# Altium integrated library Linear Technology Power Management Power Control.IntLib: 661 symbols (part 11 of 43)
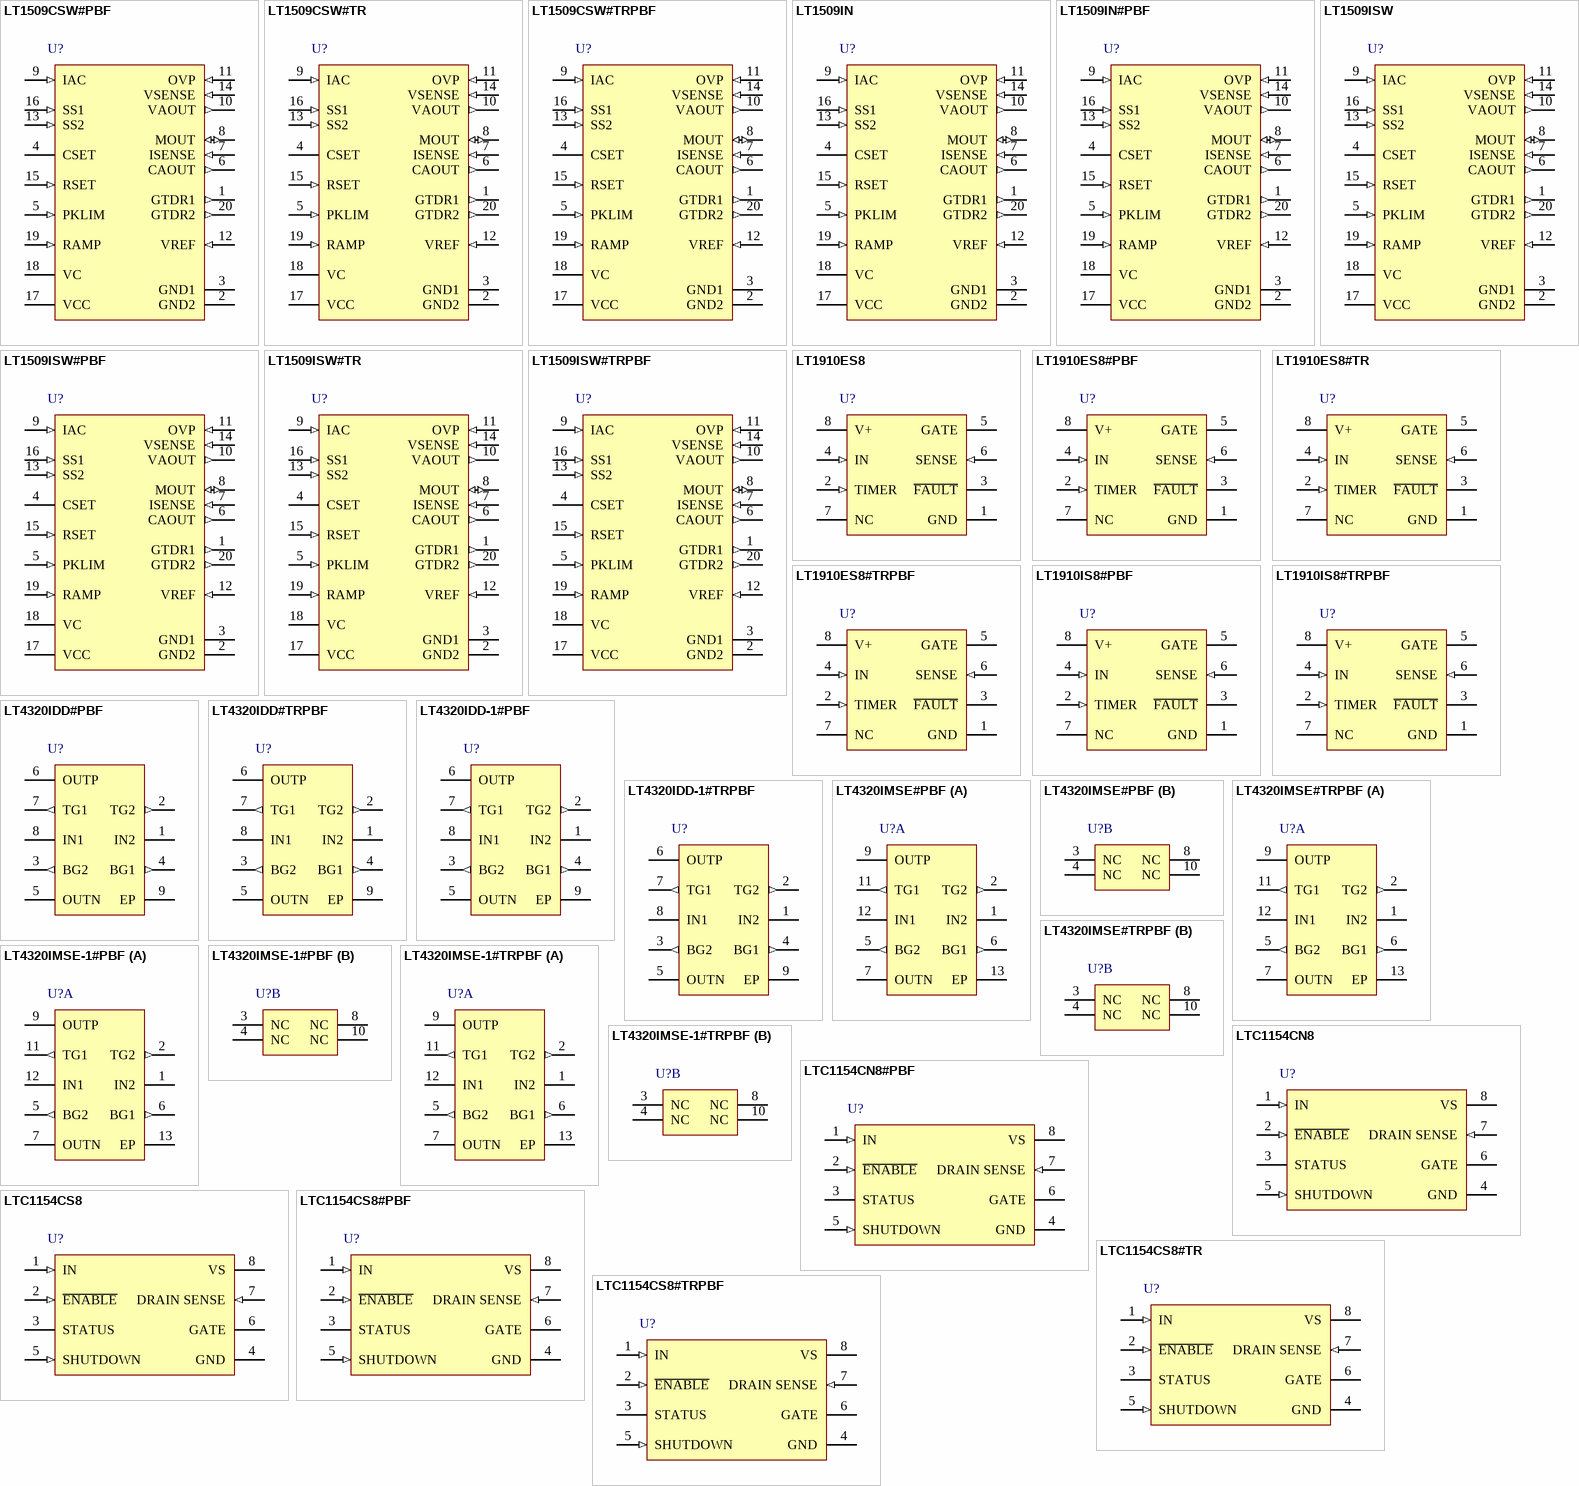
[diagram p29: symbols LT1509CSW#PBF to LTC1154CS8#TRPBF]

## LT1509CSW#TR
designator U?
Power Factor and PWM Controller, 20-pin SOIC (SW-20), 0 to 100 degC, Tape and Reel; Manufacturer: Linear Technology; PartNumber: LT1509CSW#TR; PackageVersion: Jun-10; PackageReference: SW-20; PackageDescription: 20-Pin Plastic Small Outline, Body 12.80 x 7.49 mm, Pitch 1.27 mm; Supplier 1: Digi-Key; Supplier Part Number 1: LT1509CSW#TR-ND; Packing: Tape and Reel; RoHS: FALSE; Mounting Technology: Surface Mount; ComponentLink1Description: Manufacturer URL; ComponentLink1URL: http://www.linear.com/; ComponentLink2Description: Datasheet; ComponentLink2URL: http://cds.linear.com/docs/en/datasheet/lt1509.pdf; ComponentLink3Description: Package Specification; ComponentLink3URL: http://cds.linear.com/docs/en/packaging/SO_20_05-08-1620.pdf
footprint LT-SW-20_N (SOIC, 20-Leads, Body 12.8x7.49mm, Pitch 1.27mm, IPC Medium Density)
footprint LT-SW-20_L (SOIC, 20-Leads, Body 12.8x7.49mm, Pitch 1.27mm, IPC High Density)
footprint LT-SW-20_M (SOIC, 20-Leads, Body 12.8x7.49mm, Pitch 1.27mm, IPC Low Density)
pins: 1 GTDR1 (out) "The PFC MOSFET gate driver is a fast totem pole output which is clamped at 15 V. Capacitive loads like the MOSFET gates may cause overshoot. A gate series resistor of at least 5 ohm will prevent the overshoot.", 2 GND2 (power) "Power Ground. High current spikes occur in this line when either GTDR1 or GTDR2 switches low.", 3 GND1 (power) "Analog Ground.", 4 CSET "The capacitor from this pin to GND and RSET determines oscillator frequency. The oscillator ramp is 5V and the frequency = 1.5/(RSET CSET ).", 5 PKLIM (in) "The threshold of the peak current limit comparator is GND. To set current limit, a resistor divider can be connected from VREF to current sense resistor.", 6 CAOUT (out) "This is the output of the current amplifier that senses and forces the line current to follow the reference signal that comes from the multiplier by commanding the pulse width modulator. When CAOUT is low, the modulator has (See Datasheet)", 7 ISENSE (in) "This is the inverting input of the current amplifier. This pin is clamped at -0.6 V by an ESD protec tion diode.", 8 MOUT (io) "This is the multiplier high impedance current output and the noninverting input of the current amplifier. This pin is clamped at -0.6 V and 3 V.", 9 IAC (in) "This is the AC line voltage sensing input to the multiplier. It is a current input that is biased at 2 V to minimize the crossover dead zone caused by low line voltage. At the pin, a 25 k resistor is in series with the (See Datasheet)", 10 VAOUT (out) "This is the output of the voltage error amplifier. The output is clamped at 13.5 V. When the output goes below 2.5 V, the multiplier output current is zero.", 11 OVP (in) "This is the input to the overvoltage comparator. The threshold is 1.05 times the reference voltage. When the comparator trips, the multiplier, which is quickly inhibited, blanks PFC switching to prevent further overshoot. (See Datasheet)", 12 VREF (in) "This is the 7.5 V reference. When VCC goes low, VREF will stay at 0 V. VREF biases most of the internal circuitry and can source up to 5 mA externally.", 13 SS2 (in) "PWM Soft Start. The comparator PWMOK monitors the OVP pin and releases the SS2 after the PFC output gets close to the final voltage.", 14 VSENSE (in) "This is the inverting input to the voltage amplifier.", 15 RSET (in) "A resistor from RSET to GND sets the oscillator charging current and the maximum multiplier output current which is used to limit the maximum line current.", 16 SS1 (in) "Soft Start. SS1 is reset to zero for low VCC . When VCC rises above lockout threshold, SS1 is released to ramp up at a rate set by the internal 12 uA current source and an external capacitor. During this ramp up, PFC (See Datasheet)", 17 VCC (power) "This is the supply for the chip.", 18 VC "PWM current mode control voltage. Normally connects to the optocoupler amplifier output. A pull-up current of 50 uA flows out of the pin.", 19 RAMP (in) "PWM current mode current sense input with current limit set to 1 V.", 20 GTDR2 (out) "The PWM MOSFET gate driver is a 1.5 A fast totem pole output. It is clamped at 15 V. Capacitive loads like the MOSFET gates may cause overshoot. A gate series resistor of at least 5 ohm will prevent the overshoot."

## LT1509CSW#TRPBF
designator U?
Power Factor and PWM Controller, 20-pin SOIC (SW-20), 0 to 100 degC, Pb-Free, Tape and Reel; Manufacturer: Linear Technology; PartNumber: LT1509CSW#TRPBF; PackageVersion: Jun-10; PackageReference: SW-20; PackageDescription: 20-Pin Plastic Small Outline, Body 12.80 x 7.49 mm, Pitch 1.27 mm; Supplier 1: Digi-Key; Supplier Part Number 1: LT1509CSW#TRPBF-ND; Packing: Tape and Reel; RoHS: TRUE; Mounting Technology: Surface Mount; ComponentLink1Description: Manufacturer URL; ComponentLink1URL: http://www.linear.com/; ComponentLink2Description: Datasheet; ComponentLink2URL: http://cds.linear.com/docs/en/datasheet/lt1509.pdf; ComponentLink3Description: Package Specification; ComponentLink3URL: http://cds.linear.com/docs/en/packaging/SO_20_05-08-1620.pdf
footprint LT-SW-20_N (SOIC, 20-Leads, Body 12.8x7.49mm, Pitch 1.27mm, IPC Medium Density)
footprint LT-SW-20_L (SOIC, 20-Leads, Body 12.8x7.49mm, Pitch 1.27mm, IPC High Density)
footprint LT-SW-20_M (SOIC, 20-Leads, Body 12.8x7.49mm, Pitch 1.27mm, IPC Low Density)
pins: 1 GTDR1 (out) "The PFC MOSFET gate driver is a fast totem pole output which is clamped at 15 V. Capacitive loads like the MOSFET gates may cause overshoot. A gate series resistor of at least 5 ohm will prevent the overshoot.", 2 GND2 (power) "Power Ground. High current spikes occur in this line when either GTDR1 or GTDR2 switches low.", 3 GND1 (power) "Analog Ground.", 4 CSET "The capacitor from this pin to GND and RSET determines oscillator frequency. The oscillator ramp is 5V and the frequency = 1.5/(RSET CSET ).", 5 PKLIM (in) "The threshold of the peak current limit comparator is GND. To set current limit, a resistor divider can be connected from VREF to current sense resistor.", 6 CAOUT (out) "This is the output of the current amplifier that senses and forces the line current to follow the reference signal that comes from the multiplier by commanding the pulse width modulator. When CAOUT is low, the modulator has (See Datasheet)", 7 ISENSE (in) "This is the inverting input of the current amplifier. This pin is clamped at -0.6 V by an ESD protec tion diode.", 8 MOUT (io) "This is the multiplier high impedance current output and the noninverting input of the current amplifier. This pin is clamped at -0.6 V and 3 V.", 9 IAC (in) "This is the AC line voltage sensing input to the multiplier. It is a current input that is biased at 2 V to minimize the crossover dead zone caused by low line voltage. At the pin, a 25 k resistor is in series with the (See Datasheet)", 10 VAOUT (out) "This is the output of the voltage error amplifier. The output is clamped at 13.5 V. When the output goes below 2.5 V, the multiplier output current is zero.", 11 OVP (in) "This is the input to the overvoltage comparator. The threshold is 1.05 times the reference voltage. When the comparator trips, the multiplier, which is quickly inhibited, blanks PFC switching to prevent further overshoot. (See Datasheet)", 12 VREF (in) "This is the 7.5 V reference. When VCC goes low, VREF will stay at 0 V. VREF biases most of the internal circuitry and can source up to 5 mA externally.", 13 SS2 (in) "PWM Soft Start. The comparator PWMOK monitors the OVP pin and releases the SS2 after the PFC output gets close to the final voltage.", 14 VSENSE (in) "This is the inverting input to the voltage amplifier.", 15 RSET (in) "A resistor from RSET to GND sets the oscillator charging current and the maximum multiplier output current which is used to limit the maximum line current.", 16 SS1 (in) "Soft Start. SS1 is reset to zero for low VCC . When VCC rises above lockout threshold, SS1 is released to ramp up at a rate set by the internal 12 uA current source and an external capacitor. During this ramp up, PFC (See Datasheet)", 17 VCC (power) "This is the supply for the chip.", 18 VC "PWM current mode control voltage. Normally connects to the optocoupler amplifier output. A pull-up current of 50 uA flows out of the pin.", 19 RAMP (in) "PWM current mode current sense input with current limit set to 1 V.", 20 GTDR2 (out) "The PWM MOSFET gate driver is a 1.5 A fast totem pole output. It is clamped at 15 V. Capacitive loads like the MOSFET gates may cause overshoot. A gate series resistor of at least 5 ohm will prevent the overshoot."

## LT1509IN
designator U?
Power Factor and PWM Controller, 20-pin DIP (N-20), -40 to 125 degC; Manufacturer: Linear Technology; PartNumber: LT1509IN; PackageVersion: Rev. I, 07/2011; PackageReference: N-20; PackageDescription: 20-Pin PDIP, Body 26.924 x 6.477 mm, Pitch 2.54 mm; Supplier 1: Digi-Key; Supplier Part Number 1: LT1509IN-ND; Supplier 2: Newark; Supplier Part Number 2: 57M4657; RoHS: FALSE; Mounting Technology: Through Hole; ComponentLink1Description: Manufacturer URL; ComponentLink1URL: http://www.linear.com/; ComponentLink2Description: Datasheet; ComponentLink2URL: http://cds.linear.com/docs/en/datasheet/lt1509.pdf; ComponentLink3Description: Package Specification; ComponentLink3URL: http://cds.linear.com/docs/en/packaging/05081510_I_N20.pdf
footprint LT-N-20 (DIP, 20-Leads, Body 26.924x6.477mm, Pitch 2.54mm)
pins: 1 GTDR1 (out) "The PFC MOSFET gate driver is a fast totem pole output which is clamped at 15 V. Capacitive loads like the MOSFET gates may cause overshoot. A gate series resistor of at least 5 ohm will prevent the overshoot.", 2 GND2 (power) "Power Ground. High current spikes occur in this line when either GTDR1 or GTDR2 switches low.", 3 GND1 (power) "Analog Ground.", 4 CSET "The capacitor from this pin to GND and RSET determines oscillator frequency. The oscillator ramp is 5V and the frequency = 1.5/(RSET CSET ).", 5 PKLIM (in) "The threshold of the peak current limit comparator is GND. To set current limit, a resistor divider can be connected from VREF to current sense resistor.", 6 CAOUT (out) "This is the output of the current amplifier that senses and forces the line current to follow the reference signal that comes from the multiplier by commanding the pulse width modulator. When CAOUT is low, the modulator has (See Datasheet)", 7 ISENSE (in) "This is the inverting input of the current amplifier. This pin is clamped at -0.6 V by an ESD protec tion diode.", 8 MOUT (io) "This is the multiplier high impedance current output and the noninverting input of the current amplifier. This pin is clamped at -0.6 V and 3 V.", 9 IAC (in) "This is the AC line voltage sensing input to the multiplier. It is a current input that is biased at 2 V to minimize the crossover dead zone caused by low line voltage. At the pin, a 25 k resistor is in series with the (See Datasheet)", 10 VAOUT (out) "This is the output of the voltage error amplifier. The output is clamped at 13.5 V. When the output goes below 2.5 V, the multiplier output current is zero.", 11 OVP (in) "This is the input to the overvoltage comparator. The threshold is 1.05 times the reference voltage. When the comparator trips, the multiplier, which is quickly inhibited, blanks PFC switching to prevent further overshoot. (See Datasheet)", 12 VREF (in) "This is the 7.5 V reference. When VCC goes low, VREF will stay at 0 V. VREF biases most of the internal circuitry and can source up to 5 mA externally.", 13 SS2 (in) "PWM Soft Start. The comparator PWMOK monitors the OVP pin and releases the SS2 after the PFC output gets close to the final voltage.", 14 VSENSE (in) "This is the inverting input to the voltage amplifier.", 15 RSET (in) "A resistor from RSET to GND sets the oscillator charging current and the maximum multiplier output current which is used to limit the maximum line current.", 16 SS1 (in) "Soft Start. SS1 is reset to zero for low VCC . When VCC rises above lockout threshold, SS1 is released to ramp up at a rate set by the internal 12 uA current source and an external capacitor. During this ramp up, PFC (See Datasheet)", 17 VCC (power) "This is the supply for the chip.", 18 VC "PWM current mode control voltage. Normally connects to the optocoupler amplifier output. A pull-up current of 50 uA flows out of the pin.", 19 RAMP (in) "PWM current mode current sense input with current limit set to 1 V.", 20 GTDR2 (out) "The PWM MOSFET gate driver is a 1.5 A fast totem pole output. It is clamped at 15 V. Capacitive loads like the MOSFET gates may cause overshoot. A gate series resistor of at least 5 ohm will prevent the overshoot."

## LT1509IN#PBF
designator U?
Power Factor and PWM Controller, 20-pin DIP (N-20), -40 to 125 degC, Pb-Free; Manufacturer: Linear Technology; PartNumber: LT1509IN#PBF; PackageVersion: Rev. I, 07/2011; PackageReference: N-20; PackageDescription: 20-Pin PDIP, Body 26.924 x 6.477 mm, Pitch 2.54 mm; Supplier 1: Digi-Key; Supplier Part Number 1: LT1509IN#PBF-ND; Supplier 2: Newark; Supplier Part Number 2: 57M4658; RoHS: TRUE; Mounting Technology: Through Hole; ComponentLink1Description: Manufacturer URL; ComponentLink1URL: http://www.linear.com/; ComponentLink2Description: Datasheet; ComponentLink2URL: http://cds.linear.com/docs/en/datasheet/lt1509.pdf; ComponentLink3Description: Package Specification; ComponentLink3URL: http://cds.linear.com/docs/en/packaging/05081510_I_N20.pdf
footprint LT-N-20 (DIP, 20-Leads, Body 26.924x6.477mm, Pitch 2.54mm)
pins: 1 GTDR1 (out) "The PFC MOSFET gate driver is a fast totem pole output which is clamped at 15 V. Capacitive loads like the MOSFET gates may cause overshoot. A gate series resistor of at least 5 ohm will prevent the overshoot.", 2 GND2 (power) "Power Ground. High current spikes occur in this line when either GTDR1 or GTDR2 switches low.", 3 GND1 (power) "Analog Ground.", 4 CSET "The capacitor from this pin to GND and RSET determines oscillator frequency. The oscillator ramp is 5V and the frequency = 1.5/(RSET CSET ).", 5 PKLIM (in) "The threshold of the peak current limit comparator is GND. To set current limit, a resistor divider can be connected from VREF to current sense resistor.", 6 CAOUT (out) "This is the output of the current amplifier that senses and forces the line current to follow the reference signal that comes from the multiplier by commanding the pulse width modulator. When CAOUT is low, the modulator has (See Datasheet)", 7 ISENSE (in) "This is the inverting input of the current amplifier. This pin is clamped at -0.6 V by an ESD protec tion diode.", 8 MOUT (io) "This is the multiplier high impedance current output and the noninverting input of the current amplifier. This pin is clamped at -0.6 V and 3 V.", 9 IAC (in) "This is the AC line voltage sensing input to the multiplier. It is a current input that is biased at 2 V to minimize the crossover dead zone caused by low line voltage. At the pin, a 25 k resistor is in series with the (See Datasheet)", 10 VAOUT (out) "This is the output of the voltage error amplifier. The output is clamped at 13.5 V. When the output goes below 2.5 V, the multiplier output current is zero.", 11 OVP (in) "This is the input to the overvoltage comparator. The threshold is 1.05 times the reference voltage. When the comparator trips, the multiplier, which is quickly inhibited, blanks PFC switching to prevent further overshoot. (See Datasheet)", 12 VREF (in) "This is the 7.5 V reference. When VCC goes low, VREF will stay at 0 V. VREF biases most of the internal circuitry and can source up to 5 mA externally.", 13 SS2 (in) "PWM Soft Start. The comparator PWMOK monitors the OVP pin and releases the SS2 after the PFC output gets close to the final voltage.", 14 VSENSE (in) "This is the inverting input to the voltage amplifier.", 15 RSET (in) "A resistor from RSET to GND sets the oscillator charging current and the maximum multiplier output current which is used to limit the maximum line current.", 16 SS1 (in) "Soft Start. SS1 is reset to zero for low VCC . When VCC rises above lockout threshold, SS1 is released to ramp up at a rate set by the internal 12 uA current source and an external capacitor. During this ramp up, PFC (See Datasheet)", 17 VCC (power) "This is the supply for the chip.", 18 VC "PWM current mode control voltage. Normally connects to the optocoupler amplifier output. A pull-up current of 50 uA flows out of the pin.", 19 RAMP (in) "PWM current mode current sense input with current limit set to 1 V.", 20 GTDR2 (out) "The PWM MOSFET gate driver is a 1.5 A fast totem pole output. It is clamped at 15 V. Capacitive loads like the MOSFET gates may cause overshoot. A gate series resistor of at least 5 ohm will prevent the overshoot."

## LT1509ISW
designator U?
Power Factor and PWM Controller, 20-pin SOIC (SW-20), -40 to 125 degC; Manufacturer: Linear Technology; PartNumber: LT1509ISW; PackageVersion: Jun-10; PackageReference: SW-20; PackageDescription: 20-Pin Plastic Small Outline, Body 12.80 x 7.49 mm, Pitch 1.27 mm; Supplier 1: Digi-Key; Supplier Part Number 1: LT1509ISW-ND; RoHS: FALSE; Mounting Technology: Surface Mount; ComponentLink1Description: Manufacturer URL; ComponentLink1URL: http://www.linear.com/; ComponentLink2Description: Datasheet; ComponentLink2URL: http://cds.linear.com/docs/en/datasheet/lt1509.pdf; ComponentLink3Description: Package Specification; ComponentLink3URL: http://cds.linear.com/docs/en/packaging/SO_20_05-08-1620.pdf
footprint LT-SW-20_N (SOIC, 20-Leads, Body 12.8x7.49mm, Pitch 1.27mm, IPC Medium Density)
footprint LT-SW-20_L (SOIC, 20-Leads, Body 12.8x7.49mm, Pitch 1.27mm, IPC High Density)
footprint LT-SW-20_M (SOIC, 20-Leads, Body 12.8x7.49mm, Pitch 1.27mm, IPC Low Density)
pins: 1 GTDR1 (out) "The PFC MOSFET gate driver is a fast totem pole output which is clamped at 15 V. Capacitive loads like the MOSFET gates may cause overshoot. A gate series resistor of at least 5 ohm will prevent the overshoot.", 2 GND2 (power) "Power Ground. High current spikes occur in this line when either GTDR1 or GTDR2 switches low.", 3 GND1 (power) "Analog Ground.", 4 CSET "The capacitor from this pin to GND and RSET determines oscillator frequency. The oscillator ramp is 5V and the frequency = 1.5/(RSET CSET ).", 5 PKLIM (in) "The threshold of the peak current limit comparator is GND. To set current limit, a resistor divider can be connected from VREF to current sense resistor.", 6 CAOUT (out) "This is the output of the current amplifier that senses and forces the line current to follow the reference signal that comes from the multiplier by commanding the pulse width modulator. When CAOUT is low, the modulator has (See Datasheet)", 7 ISENSE (in) "This is the inverting input of the current amplifier. This pin is clamped at -0.6 V by an ESD protec tion diode.", 8 MOUT (io) "This is the multiplier high impedance current output and the noninverting input of the current amplifier. This pin is clamped at -0.6 V and 3 V.", 9 IAC (in) "This is the AC line voltage sensing input to the multiplier. It is a current input that is biased at 2 V to minimize the crossover dead zone caused by low line voltage. At the pin, a 25 k resistor is in series with the (See Datasheet)", 10 VAOUT (out) "This is the output of the voltage error amplifier. The output is clamped at 13.5 V. When the output goes below 2.5 V, the multiplier output current is zero.", 11 OVP (in) "This is the input to the overvoltage comparator. The threshold is 1.05 times the reference voltage. When the comparator trips, the multiplier, which is quickly inhibited, blanks PFC switching to prevent further overshoot. (See Datasheet)", 12 VREF (in) "This is the 7.5 V reference. When VCC goes low, VREF will stay at 0 V. VREF biases most of the internal circuitry and can source up to 5 mA externally.", 13 SS2 (in) "PWM Soft Start. The comparator PWMOK monitors the OVP pin and releases the SS2 after the PFC output gets close to the final voltage.", 14 VSENSE (in) "This is the inverting input to the voltage amplifier.", 15 RSET (in) "A resistor from RSET to GND sets the oscillator charging current and the maximum multiplier output current which is used to limit the maximum line current.", 16 SS1 (in) "Soft Start. SS1 is reset to zero for low VCC . When VCC rises above lockout threshold, SS1 is released to ramp up at a rate set by the internal 12 uA current source and an external capacitor. During this ramp up, PFC (See Datasheet)", 17 VCC (power) "This is the supply for the chip.", 18 VC "PWM current mode control voltage. Normally connects to the optocoupler amplifier output. A pull-up current of 50 uA flows out of the pin.", 19 RAMP (in) "PWM current mode current sense input with current limit set to 1 V.", 20 GTDR2 (out) "The PWM MOSFET gate driver is a 1.5 A fast totem pole output. It is clamped at 15 V. Capacitive loads like the MOSFET gates may cause overshoot. A gate series resistor of at least 5 ohm will prevent the overshoot."

## LT1509ISW#PBF
designator U?
Power Factor and PWM Controller, 20-pin SOIC (SW-20), -40 to 125 degC, Pb-Free; Manufacturer: Linear Technology; PartNumber: LT1509ISW#PBF; PackageVersion: Jun-10; PackageReference: SW-20; PackageDescription: 20-Pin Plastic Small Outline, Body 12.80 x 7.49 mm, Pitch 1.27 mm; Supplier 1: Digi-Key; Supplier Part Number 1: LT1509ISW#PBF-ND; Supplier 2: Newark; Supplier Part Number 2: 57M4660; RoHS: TRUE; Mounting Technology: Surface Mount; ComponentLink1Description: Manufacturer URL; ComponentLink1URL: http://www.linear.com/; ComponentLink2Description: Datasheet; ComponentLink2URL: http://cds.linear.com/docs/en/datasheet/lt1509.pdf; ComponentLink3Description: Package Specification; ComponentLink3URL: http://cds.linear.com/docs/en/packaging/SO_20_05-08-1620.pdf
footprint LT-SW-20_N (SOIC, 20-Leads, Body 12.8x7.49mm, Pitch 1.27mm, IPC Medium Density)
footprint LT-SW-20_L (SOIC, 20-Leads, Body 12.8x7.49mm, Pitch 1.27mm, IPC High Density)
footprint LT-SW-20_M (SOIC, 20-Leads, Body 12.8x7.49mm, Pitch 1.27mm, IPC Low Density)
pins: 1 GTDR1 (out) "The PFC MOSFET gate driver is a fast totem pole output which is clamped at 15 V. Capacitive loads like the MOSFET gates may cause overshoot. A gate series resistor of at least 5 ohm will prevent the overshoot.", 2 GND2 (power) "Power Ground. High current spikes occur in this line when either GTDR1 or GTDR2 switches low.", 3 GND1 (power) "Analog Ground.", 4 CSET "The capacitor from this pin to GND and RSET determines oscillator frequency. The oscillator ramp is 5V and the frequency = 1.5/(RSET CSET ).", 5 PKLIM (in) "The threshold of the peak current limit comparator is GND. To set current limit, a resistor divider can be connected from VREF to current sense resistor.", 6 CAOUT (out) "This is the output of the current amplifier that senses and forces the line current to follow the reference signal that comes from the multiplier by commanding the pulse width modulator. When CAOUT is low, the modulator has (See Datasheet)", 7 ISENSE (in) "This is the inverting input of the current amplifier. This pin is clamped at -0.6 V by an ESD protec tion diode.", 8 MOUT (io) "This is the multiplier high impedance current output and the noninverting input of the current amplifier. This pin is clamped at -0.6 V and 3 V.", 9 IAC (in) "This is the AC line voltage sensing input to the multiplier. It is a current input that is biased at 2 V to minimize the crossover dead zone caused by low line voltage. At the pin, a 25 k resistor is in series with the (See Datasheet)", 10 VAOUT (out) "This is the output of the voltage error amplifier. The output is clamped at 13.5 V. When the output goes below 2.5 V, the multiplier output current is zero.", 11 OVP (in) "This is the input to the overvoltage comparator. The threshold is 1.05 times the reference voltage. When the comparator trips, the multiplier, which is quickly inhibited, blanks PFC switching to prevent further overshoot. (See Datasheet)", 12 VREF (in) "This is the 7.5 V reference. When VCC goes low, VREF will stay at 0 V. VREF biases most of the internal circuitry and can source up to 5 mA externally.", 13 SS2 (in) "PWM Soft Start. The comparator PWMOK monitors the OVP pin and releases the SS2 after the PFC output gets close to the final voltage.", 14 VSENSE (in) "This is the inverting input to the voltage amplifier.", 15 RSET (in) "A resistor from RSET to GND sets the oscillator charging current and the maximum multiplier output current which is used to limit the maximum line current.", 16 SS1 (in) "Soft Start. SS1 is reset to zero for low VCC . When VCC rises above lockout threshold, SS1 is released to ramp up at a rate set by the internal 12 uA current source and an external capacitor. During this ramp up, PFC (See Datasheet)", 17 VCC (power) "This is the supply for the chip.", 18 VC "PWM current mode control voltage. Normally connects to the optocoupler amplifier output. A pull-up current of 50 uA flows out of the pin.", 19 RAMP (in) "PWM current mode current sense input with current limit set to 1 V.", 20 GTDR2 (out) "The PWM MOSFET gate driver is a 1.5 A fast totem pole output. It is clamped at 15 V. Capacitive loads like the MOSFET gates may cause overshoot. A gate series resistor of at least 5 ohm will prevent the overshoot."

## LT1509ISW#TR
designator U?
Power Factor and PWM Controller, 20-pin SOIC (SW-20), -40 to 125 degC, Tape and Reel; Manufacturer: Linear Technology; PartNumber: LT1509ISW#TR; PackageVersion: Jun-10; PackageReference: SW-20; PackageDescription: 20-Pin Plastic Small Outline, Body 12.80 x 7.49 mm, Pitch 1.27 mm; Supplier 1: Digi-Key; Supplier Part Number 1: LT1509ISW#TR-ND; Packing: Tape and Reel; RoHS: FALSE; Mounting Technology: Surface Mount; ComponentLink1Description: Manufacturer URL; ComponentLink1URL: http://www.linear.com/; ComponentLink2Description: Datasheet; ComponentLink2URL: http://cds.linear.com/docs/en/datasheet/lt1509.pdf; ComponentLink3Description: Package Specification; ComponentLink3URL: http://cds.linear.com/docs/en/packaging/SO_20_05-08-1620.pdf
footprint LT-SW-20_N (SOIC, 20-Leads, Body 12.8x7.49mm, Pitch 1.27mm, IPC Medium Density)
footprint LT-SW-20_L (SOIC, 20-Leads, Body 12.8x7.49mm, Pitch 1.27mm, IPC High Density)
footprint LT-SW-20_M (SOIC, 20-Leads, Body 12.8x7.49mm, Pitch 1.27mm, IPC Low Density)
pins: 1 GTDR1 (out) "The PFC MOSFET gate driver is a fast totem pole output which is clamped at 15 V. Capacitive loads like the MOSFET gates may cause overshoot. A gate series resistor of at least 5 ohm will prevent the overshoot.", 2 GND2 (power) "Power Ground. High current spikes occur in this line when either GTDR1 or GTDR2 switches low.", 3 GND1 (power) "Analog Ground.", 4 CSET "The capacitor from this pin to GND and RSET determines oscillator frequency. The oscillator ramp is 5V and the frequency = 1.5/(RSET CSET ).", 5 PKLIM (in) "The threshold of the peak current limit comparator is GND. To set current limit, a resistor divider can be connected from VREF to current sense resistor.", 6 CAOUT (out) "This is the output of the current amplifier that senses and forces the line current to follow the reference signal that comes from the multiplier by commanding the pulse width modulator. When CAOUT is low, the modulator has (See Datasheet)", 7 ISENSE (in) "This is the inverting input of the current amplifier. This pin is clamped at -0.6 V by an ESD protec tion diode.", 8 MOUT (io) "This is the multiplier high impedance current output and the noninverting input of the current amplifier. This pin is clamped at -0.6 V and 3 V.", 9 IAC (in) "This is the AC line voltage sensing input to the multiplier. It is a current input that is biased at 2 V to minimize the crossover dead zone caused by low line voltage. At the pin, a 25 k resistor is in series with the (See Datasheet)", 10 VAOUT (out) "This is the output of the voltage error amplifier. The output is clamped at 13.5 V. When the output goes below 2.5 V, the multiplier output current is zero.", 11 OVP (in) "This is the input to the overvoltage comparator. The threshold is 1.05 times the reference voltage. When the comparator trips, the multiplier, which is quickly inhibited, blanks PFC switching to prevent further overshoot. (See Datasheet)", 12 VREF (in) "This is the 7.5 V reference. When VCC goes low, VREF will stay at 0 V. VREF biases most of the internal circuitry and can source up to 5 mA externally.", 13 SS2 (in) "PWM Soft Start. The comparator PWMOK monitors the OVP pin and releases the SS2 after the PFC output gets close to the final voltage.", 14 VSENSE (in) "This is the inverting input to the voltage amplifier.", 15 RSET (in) "A resistor from RSET to GND sets the oscillator charging current and the maximum multiplier output current which is used to limit the maximum line current.", 16 SS1 (in) "Soft Start. SS1 is reset to zero for low VCC . When VCC rises above lockout threshold, SS1 is released to ramp up at a rate set by the internal 12 uA current source and an external capacitor. During this ramp up, PFC (See Datasheet)", 17 VCC (power) "This is the supply for the chip.", 18 VC "PWM current mode control voltage. Normally connects to the optocoupler amplifier output. A pull-up current of 50 uA flows out of the pin.", 19 RAMP (in) "PWM current mode current sense input with current limit set to 1 V.", 20 GTDR2 (out) "The PWM MOSFET gate driver is a 1.5 A fast totem pole output. It is clamped at 15 V. Capacitive loads like the MOSFET gates may cause overshoot. A gate series resistor of at least 5 ohm will prevent the overshoot."

## LT1509ISW#TRPBF
designator U?
Power Factor and PWM Controller, 20-pin SOIC (SW-20), -40 to 125 degC, Pb-Free, Tape and Reel; Manufacturer: Linear Technology; PartNumber: LT1509ISW#TRPBF; PackageVersion: Jun-10; PackageReference: SW-20; PackageDescription: 20-Pin Plastic Small Outline, Body 12.80 x 7.49 mm, Pitch 1.27 mm; Supplier 1: Digi-Key; Supplier Part Number 1: LT1509ISW#TRPBF-ND; Packing: Tape and Reel; RoHS: TRUE; Mounting Technology: Surface Mount; ComponentLink1Description: Manufacturer URL; ComponentLink1URL: http://www.linear.com/; ComponentLink2Description: Datasheet; ComponentLink2URL: http://cds.linear.com/docs/en/datasheet/lt1509.pdf; ComponentLink3Description: Package Specification; ComponentLink3URL: http://cds.linear.com/docs/en/packaging/SO_20_05-08-1620.pdf
footprint LT-SW-20_N (SOIC, 20-Leads, Body 12.8x7.49mm, Pitch 1.27mm, IPC Medium Density)
footprint LT-SW-20_L (SOIC, 20-Leads, Body 12.8x7.49mm, Pitch 1.27mm, IPC High Density)
footprint LT-SW-20_M (SOIC, 20-Leads, Body 12.8x7.49mm, Pitch 1.27mm, IPC Low Density)
pins: 1 GTDR1 (out) "The PFC MOSFET gate driver is a fast totem pole output which is clamped at 15 V. Capacitive loads like the MOSFET gates may cause overshoot. A gate series resistor of at least 5 ohm will prevent the overshoot.", 2 GND2 (power) "Power Ground. High current spikes occur in this line when either GTDR1 or GTDR2 switches low.", 3 GND1 (power) "Analog Ground.", 4 CSET "The capacitor from this pin to GND and RSET determines oscillator frequency. The oscillator ramp is 5V and the frequency = 1.5/(RSET CSET ).", 5 PKLIM (in) "The threshold of the peak current limit comparator is GND. To set current limit, a resistor divider can be connected from VREF to current sense resistor.", 6 CAOUT (out) "This is the output of the current amplifier that senses and forces the line current to follow the reference signal that comes from the multiplier by commanding the pulse width modulator. When CAOUT is low, the modulator has (See Datasheet)", 7 ISENSE (in) "This is the inverting input of the current amplifier. This pin is clamped at -0.6 V by an ESD protec tion diode.", 8 MOUT (io) "This is the multiplier high impedance current output and the noninverting input of the current amplifier. This pin is clamped at -0.6 V and 3 V.", 9 IAC (in) "This is the AC line voltage sensing input to the multiplier. It is a current input that is biased at 2 V to minimize the crossover dead zone caused by low line voltage. At the pin, a 25 k resistor is in series with the (See Datasheet)", 10 VAOUT (out) "This is the output of the voltage error amplifier. The output is clamped at 13.5 V. When the output goes below 2.5 V, the multiplier output current is zero.", 11 OVP (in) "This is the input to the overvoltage comparator. The threshold is 1.05 times the reference voltage. When the comparator trips, the multiplier, which is quickly inhibited, blanks PFC switching to prevent further overshoot. (See Datasheet)", 12 VREF (in) "This is the 7.5 V reference. When VCC goes low, VREF will stay at 0 V. VREF biases most of the internal circuitry and can source up to 5 mA externally.", 13 SS2 (in) "PWM Soft Start. The comparator PWMOK monitors the OVP pin and releases the SS2 after the PFC output gets close to the final voltage.", 14 VSENSE (in) "This is the inverting input to the voltage amplifier.", 15 RSET (in) "A resistor from RSET to GND sets the oscillator charging current and the maximum multiplier output current which is used to limit the maximum line current.", 16 SS1 (in) "Soft Start. SS1 is reset to zero for low VCC . When VCC rises above lockout threshold, SS1 is released to ramp up at a rate set by the internal 12 uA current source and an external capacitor. During this ramp up, PFC (See Datasheet)", 17 VCC (power) "This is the supply for the chip.", 18 VC "PWM current mode control voltage. Normally connects to the optocoupler amplifier output. A pull-up current of 50 uA flows out of the pin.", 19 RAMP (in) "PWM current mode current sense input with current limit set to 1 V.", 20 GTDR2 (out) "The PWM MOSFET gate driver is a 1.5 A fast totem pole output. It is clamped at 15 V. Capacitive loads like the MOSFET gates may cause overshoot. A gate series resistor of at least 5 ohm will prevent the overshoot."

## LT1910ES8
designator U?
Protected High Side MOSFET Driver, 8 to 48 V Vin, 8-pin SOIC (S8-8), -40 to 85 degC; Manufacturer: Linear Technology; PartNumber: LT1910ES8; DatasheetVersion: Rev. A; PackageVersion: Rev. G, 03/2012; PackageReference: S8-8; PackageDescription: 8-Pin Plastic Small Outline (Narrow .150 Inch), Body 4.9 x 3.9 mm, Pitch 1.27 mm; Supplier 1: Digi-Key; Supplier Part Number 1: LT1910ES8-ND; Supplier 2: Newark; Supplier Part Number 2: 57M7135; RoHS: FALSE; Mounting Technology: Surface Mount; ComponentLink1Description: Manufacturer URL; ComponentLink1URL: http://www.linear.com/; ComponentLink2Description: Datasheet; ComponentLink2URL: http://cds.linear.com/docs/en/datasheet/1910fa.pdf; ComponentLink3Description: Package Specification; ComponentLink3URL: http://cds.linear.com/docs/en/packaging/05081610_G_SO8.pdf
footprint LT-S8-8_N (SOIC, 8-Leads, Body 5x4mm, Pitch 1.27mm, IPC Medium Density)
footprint LT-S8-8_L (SOIC, 8-Leads, Body 5x4mm, Pitch 1.27mm, IPC High Density)
footprint LT-S8-8_M (SOIC, 8-Leads, Body 5x4mm, Pitch 1.27mm, IPC Low Density)
pins: 1 GND (power) "Common Ground.", 2 TIMER (in) "A timing capacitor, CT , from the TIMER pin to ground sets the restart time following overcurrent detection. Upon detection of an overcurrent condition, CT is rapidly discharged to less than 1V and then recharged by a 14uA (See Datasheet)", 3 ~{FAULT} (oc) "The F\A\U\L\T\ pin monitors the TIMER pin voltage and indicates the overcurrent condition. Whenever the TIMER pin is pulled below 3.3V at the onset of a current limit condition, the F\A\U\L\T\ pin pulls active LOW. The (See Datasheet)", 4 IN (in) "The IN pin threshold is TTL/CMOS compatible and has approximately 200mV of hysteresis. When the IN pin is pulled active HIGH above 2V, an internal charge pump is activated to pull up the GATE pin. The IN pin can be pulled as (See Datasheet)", 5 GATE (hiz) "The GATE pin drives the power MOSFET gate. When the IN pin is greater than 2V, the GATE pin is pumped approximately 12V above the supply. It has relatively high impedance (the equivalence of a few hundred kohm) when pumped (See Datasheet)", 6 SENSE (in) "The SENSE pin connects to the input of a supply-referenced comparator with a 65mV nominal offset. When the SENSE pin is taken more than 65mV below supply, the MOSFET gate is driven LOW and the timing capacitor is discharged. (See Datasheet)", 7 NC, 8 V+ (power) "In addition to providing the operating current for the LT1910, the V+ pin also serves as the Kelvin connection for the current-sense comparator. The V+ pin must be connected to the positive side of the drain-sense resistor (See Datasheet)"

## LT1910ES8#PBF
designator U?
Protected High Side MOSFET Driver, 8 to 48 V Vin, 8-pin SOIC (S8-8), -40 to 85 degC, Pb-Free; Manufacturer: Linear Technology; PartNumber: LT1910ES8#PBF; DatasheetVersion: Rev. A; PackageVersion: Rev. G, 03/2012; PackageReference: S8-8; PackageDescription: 8-Pin Plastic Small Outline (Narrow .150 Inch), Body 4.9 x 3.9 mm, Pitch 1.27 mm; Supplier 1: Digi-Key; Supplier Part Number 1: LT1910ES8#PBF-ND; Supplier 2: Farnell; Supplier Part Number 2: 1273493; Supplier 3: Newark; Supplier Part Number 3: 57M7136; RoHS: TRUE; Mounting Technology: Surface Mount; ComponentLink1Description: Manufacturer URL; ComponentLink1URL: http://www.linear.com/; ComponentLink2Description: Datasheet; ComponentLink2URL: http://cds.linear.com/docs/en/datasheet/1910fa.pdf; ComponentLink3Description: Package Specification; ComponentLink3URL: http://cds.linear.com/docs/en/packaging/05081610_G_SO8.pdf
footprint LT-S8-8_N (SOIC, 8-Leads, Body 5x4mm, Pitch 1.27mm, IPC Medium Density)
footprint LT-S8-8_L (SOIC, 8-Leads, Body 5x4mm, Pitch 1.27mm, IPC High Density)
footprint LT-S8-8_M (SOIC, 8-Leads, Body 5x4mm, Pitch 1.27mm, IPC Low Density)
pins: 1 GND (power) "Common Ground.", 2 TIMER (in) "A timing capacitor, CT , from the TIMER pin to ground sets the restart time following overcurrent detection. Upon detection of an overcurrent condition, CT is rapidly discharged to less than 1V and then recharged by a 14uA (See Datasheet)", 3 ~{FAULT} (oc) "The F\A\U\L\T\ pin monitors the TIMER pin voltage and indicates the overcurrent condition. Whenever the TIMER pin is pulled below 3.3V at the onset of a current limit condition, the F\A\U\L\T\ pin pulls active LOW. The (See Datasheet)", 4 IN (in) "The IN pin threshold is TTL/CMOS compatible and has approximately 200mV of hysteresis. When the IN pin is pulled active HIGH above 2V, an internal charge pump is activated to pull up the GATE pin. The IN pin can be pulled as (See Datasheet)", 5 GATE (hiz) "The GATE pin drives the power MOSFET gate. When the IN pin is greater than 2V, the GATE pin is pumped approximately 12V above the supply. It has relatively high impedance (the equivalence of a few hundred kohm) when pumped (See Datasheet)", 6 SENSE (in) "The SENSE pin connects to the input of a supply-referenced comparator with a 65mV nominal offset. When the SENSE pin is taken more than 65mV below supply, the MOSFET gate is driven LOW and the timing capacitor is discharged. (See Datasheet)", 7 NC, 8 V+ (power) "In addition to providing the operating current for the LT1910, the V+ pin also serves as the Kelvin connection for the current-sense comparator. The V+ pin must be connected to the positive side of the drain-sense resistor (See Datasheet)"

## LT1910ES8#TR
designator U?
Protected High Side MOSFET Driver, 8 to 48 V Vin, 8-pin SOIC (S8-8), -40 to 85 degC, Tape and Reel; Manufacturer: Linear Technology; PartNumber: LT1910ES8#TR; DatasheetVersion: Rev. A; PackageVersion: Rev. G, 03/2012; PackageReference: S8-8; PackageDescription: 8-Pin Plastic Small Outline (Narrow .150 Inch), Body 4.9 x 3.9 mm, Pitch 1.27 mm; Supplier 1: Digi-Key; Supplier Part Number 1: LT1910ES8#TR-ND; Packing: Tape and Reel; RoHS: FALSE; Mounting Technology: Surface Mount; ComponentLink1Description: Manufacturer URL; ComponentLink1URL: http://www.linear.com/; ComponentLink2Description: Datasheet; ComponentLink2URL: http://cds.linear.com/docs/en/datasheet/1910fa.pdf; ComponentLink3Description: Package Specification; ComponentLink3URL: http://cds.linear.com/docs/en/packaging/05081610_G_SO8.pdf
footprint LT-S8-8_N (SOIC, 8-Leads, Body 5x4mm, Pitch 1.27mm, IPC Medium Density)
footprint LT-S8-8_L (SOIC, 8-Leads, Body 5x4mm, Pitch 1.27mm, IPC High Density)
footprint LT-S8-8_M (SOIC, 8-Leads, Body 5x4mm, Pitch 1.27mm, IPC Low Density)
pins: 1 GND (power) "Common Ground.", 2 TIMER (in) "A timing capacitor, CT , from the TIMER pin to ground sets the restart time following overcurrent detection. Upon detection of an overcurrent condition, CT is rapidly discharged to less than 1V and then recharged by a 14uA (See Datasheet)", 3 ~{FAULT} (oc) "The F\A\U\L\T\ pin monitors the TIMER pin voltage and indicates the overcurrent condition. Whenever the TIMER pin is pulled below 3.3V at the onset of a current limit condition, the F\A\U\L\T\ pin pulls active LOW. The (See Datasheet)", 4 IN (in) "The IN pin threshold is TTL/CMOS compatible and has approximately 200mV of hysteresis. When the IN pin is pulled active HIGH above 2V, an internal charge pump is activated to pull up the GATE pin. The IN pin can be pulled as (See Datasheet)", 5 GATE (hiz) "The GATE pin drives the power MOSFET gate. When the IN pin is greater than 2V, the GATE pin is pumped approximately 12V above the supply. It has relatively high impedance (the equivalence of a few hundred kohm) when pumped (See Datasheet)", 6 SENSE (in) "The SENSE pin connects to the input of a supply-referenced comparator with a 65mV nominal offset. When the SENSE pin is taken more than 65mV below supply, the MOSFET gate is driven LOW and the timing capacitor is discharged. (See Datasheet)", 7 NC, 8 V+ (power) "In addition to providing the operating current for the LT1910, the V+ pin also serves as the Kelvin connection for the current-sense comparator. The V+ pin must be connected to the positive side of the drain-sense resistor (See Datasheet)"

## LT1910ES8#TRPBF
designator U?
Protected High Side MOSFET Driver, 8 to 48 V Vin, 8-pin SOIC (S8-8), -40 to 85 degC, Pb-Free, Tape and Reel; Manufacturer: Linear Technology; PartNumber: LT1910ES8#TRPBF; DatasheetVersion: Rev. A; PackageVersion: Rev. G, 03/2012; PackageReference: S8-8; PackageDescription: 8-Pin Plastic Small Outline (Narrow .150 Inch), Body 4.9 x 3.9 mm, Pitch 1.27 mm; Supplier 1: Digi-Key; Supplier Part Number 1: LT1910ES8#TRPBF-ND; Supplier 2: Newark; Supplier Part Number 2: 57M7138; Packing: Tape and Reel; RoHS: TRUE; Mounting Technology: Surface Mount; ComponentLink1Description: Manufacturer URL; ComponentLink1URL: http://www.linear.com/; ComponentLink2Description: Datasheet; ComponentLink2URL: http://cds.linear.com/docs/en/datasheet/1910fa.pdf; ComponentLink3Description: Package Specification; ComponentLink3URL: http://cds.linear.com/docs/en/packaging/05081610_G_SO8.pdf
footprint LT-S8-8_N (SOIC, 8-Leads, Body 5x4mm, Pitch 1.27mm, IPC Medium Density)
footprint LT-S8-8_L (SOIC, 8-Leads, Body 5x4mm, Pitch 1.27mm, IPC High Density)
footprint LT-S8-8_M (SOIC, 8-Leads, Body 5x4mm, Pitch 1.27mm, IPC Low Density)
pins: 1 GND (power) "Common Ground.", 2 TIMER (in) "A timing capacitor, CT , from the TIMER pin to ground sets the restart time following overcurrent detection. Upon detection of an overcurrent condition, CT is rapidly discharged to less than 1V and then recharged by a 14uA (See Datasheet)", 3 ~{FAULT} (oc) "The F\A\U\L\T\ pin monitors the TIMER pin voltage and indicates the overcurrent condition. Whenever the TIMER pin is pulled below 3.3V at the onset of a current limit condition, the F\A\U\L\T\ pin pulls active LOW. The (See Datasheet)", 4 IN (in) "The IN pin threshold is TTL/CMOS compatible and has approximately 200mV of hysteresis. When the IN pin is pulled active HIGH above 2V, an internal charge pump is activated to pull up the GATE pin. The IN pin can be pulled as (See Datasheet)", 5 GATE (hiz) "The GATE pin drives the power MOSFET gate. When the IN pin is greater than 2V, the GATE pin is pumped approximately 12V above the supply. It has relatively high impedance (the equivalence of a few hundred kohm) when pumped (See Datasheet)", 6 SENSE (in) "The SENSE pin connects to the input of a supply-referenced comparator with a 65mV nominal offset. When the SENSE pin is taken more than 65mV below supply, the MOSFET gate is driven LOW and the timing capacitor is discharged. (See Datasheet)", 7 NC, 8 V+ (power) "In addition to providing the operating current for the LT1910, the V+ pin also serves as the Kelvin connection for the current-sense comparator. The V+ pin must be connected to the positive side of the drain-sense resistor (See Datasheet)"

## LT1910IS8#PBF
designator U?
Protected High Side MOSFET Driver, 8 to 48 V Vin, 8-pin SOIC (S8-8), -40 to 125 degC, Pb-Free; Manufacturer: Linear Technology; PartNumber: LT1910IS8#PBF; DatasheetVersion: Rev. A; PackageVersion: Rev. G, 03/2012; PackageReference: S8-8; PackageDescription: 8-Pin Plastic Small Outline (Narrow .150 Inch), Body 4.9 x 3.9 mm, Pitch 1.27 mm; Supplier 1: Digi-Key; Supplier Part Number 1: LT1910IS8#PBF-ND; Supplier 2: Farnell; Supplier Part Number 2: 2254830; Supplier 3: Newark; Supplier Part Number 3: 24R3347; RoHS: TRUE; Mounting Technology: Surface Mount; ComponentLink1Description: Manufacturer URL; ComponentLink1URL: http://www.linear.com/; ComponentLink2Description: Datasheet; ComponentLink2URL: http://cds.linear.com/docs/en/datasheet/1910fa.pdf; ComponentLink3Description: Package Specification; ComponentLink3URL: http://cds.linear.com/docs/en/packaging/05081610_G_SO8.pdf
footprint LT-S8-8_N (SOIC, 8-Leads, Body 5x4mm, Pitch 1.27mm, IPC Medium Density)
footprint LT-S8-8_L (SOIC, 8-Leads, Body 5x4mm, Pitch 1.27mm, IPC High Density)
footprint LT-S8-8_M (SOIC, 8-Leads, Body 5x4mm, Pitch 1.27mm, IPC Low Density)
pins: 1 GND (power) "Common Ground.", 2 TIMER (in) "A timing capacitor, CT , from the TIMER pin to ground sets the restart time following overcurrent detection. Upon detection of an overcurrent condition, CT is rapidly discharged to less than 1V and then recharged by a 14uA (See Datasheet)", 3 ~{FAULT} (oc) "The F\A\U\L\T\ pin monitors the TIMER pin voltage and indicates the overcurrent condition. Whenever the TIMER pin is pulled below 3.3V at the onset of a current limit condition, the F\A\U\L\T\ pin pulls active LOW. The (See Datasheet)", 4 IN (in) "The IN pin threshold is TTL/CMOS compatible and has approximately 200mV of hysteresis. When the IN pin is pulled active HIGH above 2V, an internal charge pump is activated to pull up the GATE pin. The IN pin can be pulled as (See Datasheet)", 5 GATE (hiz) "The GATE pin drives the power MOSFET gate. When the IN pin is greater than 2V, the GATE pin is pumped approximately 12V above the supply. It has relatively high impedance (the equivalence of a few hundred kohm) when pumped (See Datasheet)", 6 SENSE (in) "The SENSE pin connects to the input of a supply-referenced comparator with a 65mV nominal offset. When the SENSE pin is taken more than 65mV below supply, the MOSFET gate is driven LOW and the timing capacitor is discharged. (See Datasheet)", 7 NC, 8 V+ (power) "In addition to providing the operating current for the LT1910, the V+ pin also serves as the Kelvin connection for the current-sense comparator. The V+ pin must be connected to the positive side of the drain-sense resistor (See Datasheet)"